# Altium footprint library battery_18650.PcbLib: 2 footprints
Each footprint in its own frame and in the unit in brackets; x right, y up, seen from the top. Pads: shape width x height; smd on the part's side, far side on the other; paste and mask are expansions set on the pad; w line width, h text height; cw(c..) or ccw(c..) is an arc to the next point about the centre after c.
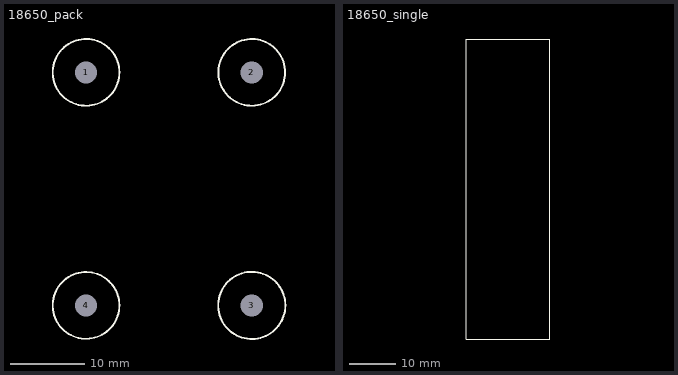
[diagram p0: the footprints below, top view; thin cyan lines are the x and y axes]

## 18650_pack [mm]
pads (4):
  round 1.524 hole 3: 1(22.6,48.5) 2(45,48.5) 3(45,17) 4(22.6,17)
Top Overlay:
  circle w0.254: c22.6,48.5 r4.51
  circle w0.254: c45,48.5 r4.51
  circle w0.254: c22.6,17 r4.51
  circle w0.254: c45,17 r4.54
3D body "Battery_Bracket_Double.STEP": height 21.2, standoff -0.2, extent -0.79,9.5 68.41,24.5
3D body "Battery_Bracket_Double.STEP": height 21.2, standoff -0.2, extent -0.8,41 68.4,56
3D body "User Library-18650 battery.STEP": height 18.36, standoff 0.18, extent 2.505,0.206 20.705,65.356
3D body "User Library-18650 battery.STEP": height 18.36, standoff 0.18, extent 24.684,0.179 42.884,65.329
3D body "User Library-18650 battery.STEP": height 18.36, standoff 0.18, extent 46.863,0.152 65.063,65.302
3D body "User Library-18650 battery.STEP": height 18.36, standoff 0.18, extent 69.042,0.152 87.242,65.302

## 18650_single [mm]
Top Overlay:
  lines w0.254: 31.706,8.505 31.706,73.656 49.867,73.656 49.867,8.505 31.706,8.505
3D body "User Library-18650 battery.STEP": height 24.37, standoff 6.17, extent 31.8,8.425 50,73.575